# Altium footprint library Footprint Library.PcbLib: 53 footprints (part 1 of 4)
Each footprint in its own frame and in the unit in brackets; x right, y up, seen from the top. Pads: shape width x height; smd on the part's side, far side on the other; paste and mask are expansions set on the pad; w line width, h text height; cw(c..) or ccw(c..) is an arc to the next point about the centre after c.
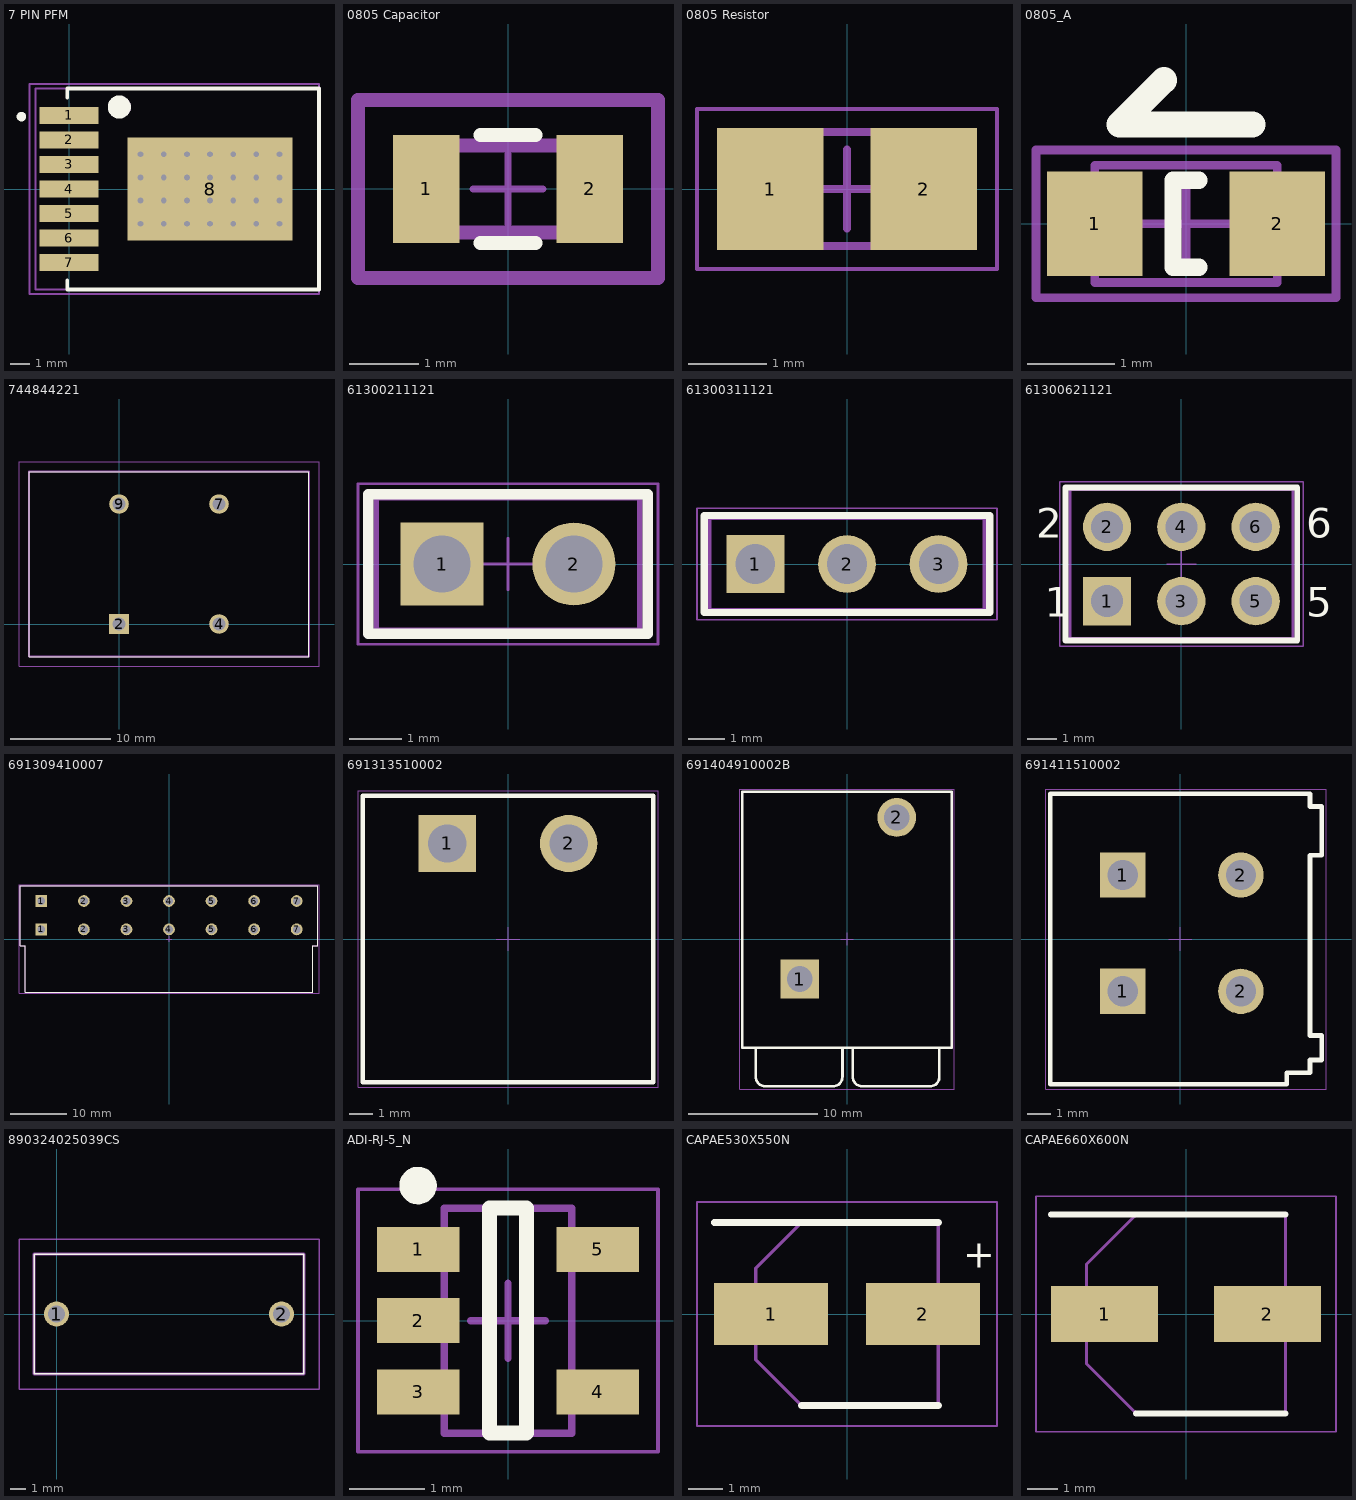
[diagram p0: the footprints below, top view; thin cyan lines are the x and y axes]

## 7 PIN PFM [mm] "SMD, 7-Leads, Body 10.4x10.1mm (max), Pitch 1.27mm, IPC Medium Density"
height 6.2
pads (8):
  rect 3.06x0.89 smd: 1(0,3.81) 2(0,2.54) 3(0,1.27) 4(0,0) 5(0,-1.27) 6(0,-2.54) 7(0,-3.81)
  rect 8.54x5.35 smd: 8(7.305,0)
via 7.305,0.6 diameter 0.6 hole 0.3
via 10.905,-1.8 diameter 0.6 hole 0.3
via 9.705,-1.8 diameter 0.6 hole 0.3
via 8.505,-1.8 diameter 0.6 hole 0.3
via 7.305,-1.8 diameter 0.6 hole 0.3
via 6.105,-1.8 diameter 0.6 hole 0.3
via 4.905,-1.8 diameter 0.6 hole 0.3
via 3.705,-1.8 diameter 0.6 hole 0.3
via 10.905,-0.6 diameter 0.6 hole 0.3
via 9.705,-0.6 diameter 0.6 hole 0.3
via 8.505,-0.6 diameter 0.6 hole 0.3
via 7.305,-0.6 diameter 0.6 hole 0.3
via 6.105,-0.6 diameter 0.6 hole 0.3
via 4.905,-0.6 diameter 0.6 hole 0.3
via 3.705,-0.6 diameter 0.6 hole 0.3
via 10.905,0.6 diameter 0.6 hole 0.3
via 9.705,0.6 diameter 0.6 hole 0.3
via 8.505,0.6 diameter 0.6 hole 0.3
via 6.105,0.6 diameter 0.6 hole 0.3
via 4.905,0.6 diameter 0.6 hole 0.3
via 3.705,0.6 diameter 0.6 hole 0.3
via 10.905,1.8 diameter 0.6 hole 0.3
via 9.705,1.8 diameter 0.6 hole 0.3
via 8.505,1.8 diameter 0.6 hole 0.3
via 7.305,1.8 diameter 0.6 hole 0.3
via 6.105,1.8 diameter 0.6 hole 0.3
via 4.905,1.8 diameter 0.6 hole 0.3
via 3.705,1.8 diameter 0.6 hole 0.3
Top Overlay:
  circle w0.6: c2.602,4.25 r0.3
  circle w0.25: c-2.473,3.75 r0.125
  lines w0.2: -0.098,-4.75 -0.098,-5.205 12.952,-5.205 12.952,5.2 -0.098,5.2 -0.098,4.75
Mechanical 13:
  circle w0.1: c2.653,4.25 r0.5
  lines w0.1: -1.747,-5.205 12.952,-5.205 12.952,5.205 -1.747,5.205 -1.747,-5.205
Mechanical 15:
  lines w0.1: 3.153,0 4.152,0 ; 3.652,-0.5 3.652,0.5 ; -2.047,-5.45 12.952,-5.45 12.952,5.45 -2.047,5.45 -2.047,-5.45
3D body "MagIC-VDRM_PFM_7.stp": height 4.72, standoff -0.05, extent -0.932,-5.06 12.837,5.1

## 0805 Capacitor [mm]
pads (2):
  rect 0.956x1.556 smd paste+0 mask+0: 1(-1.175,0) 2(1.175,0)
Top Overlay:
  lines w0.2: -0.397,-0.778 0.397,-0.778 ; -0.397,0.778 0.397,0.778
Mechanical 5:
  lines w0.2: -2.153,-1.278 2.153,-1.278 2.153,1.278 -2.153,1.278 -2.153,-1.278
  text ".Designator" at 0,0.188 h1
Mechanical 13:
  lines w0.2: -1,-0.625 1,-0.625 1,0.625 -1,0.625 -1,-0.625
Mechanical 15:
  lines w0.2: -2.153,-1.278 2.153,-1.278 2.153,1.278 -2.153,1.278 -2.153,-1.278
Mechanical 16:
  lines w0.1: -0.5,0 0.5,0 ; 0,-0.5 0,0.5
3D body "Cap_TDK_Corporation_CGA4J3X7R1H684M125AB_eec.STEP": height 0.25, standoff 0, extent -2.153,-1.278 2.153,1.278

## 0805 Resistor [mm] "Chip Resistor, 2-Leads, Body 2.00x1.25mm, IPC Low Density"
height 0.7
pads (2):
  rect 1.35x1.55 smd: 1(-0.975,0) 2(0.975,0)
Mechanical 13:
  lines w0.1: -1.1,-0.725 1.1,-0.725 1.1,0.725 -1.1,0.725 -1.1,-0.725
Mechanical 15:
  lines w0.05: -1.905,-1.016 1.905,-1.016 1.905,1.016 -1.905,1.016 -1.905,-1.016
  lines w0.1: -0.5,0 0.5,0 ; 0,-0.5 0,0.5
3D body: height 0.7, standoff 0, extent 0.7,-0.725 1.1,0.725
3D body: height 0.7, standoff 0, extent -1.1,-0.725 -0.7,0.725
3D body: height 0.7, standoff 0, extent -0.7,-0.725 0.7,0.725

## 0805_A [mm] "Chip LED, 2-Leads, Body 2.0x1.3mm, IPC Medium Density"
height 0.8
pads (2):
  rect 1.1x1.2 smd: 1(-1.05,0) 2(1.05,0)
Top Overlay:
  lines w0.2: 0.15,-0.5 -0.15,-0.5 -0.15,0.5 0.15,0.5
  lines w0.3: -0.254,1.651 -0.762,1.143 0.762,1.143
Mechanical 13:
  lines w0.1: -1.05,-0.675 1.05,-0.675 1.05,0.675 -1.05,0.675 -1.05,-0.675
Mechanical 15:
  lines w0.1: -0.5,0 0.5,0 ; 0,-0.5 0,0.5 ; -1.725,-0.85 1.725,-0.85 1.725,0.85 -1.725,0.85 -1.725,-0.85
3D body "WL-SMCW_0805_LED.stp": height 0.68, standoff -0.02, extent -1,-0.625 1,0.625

## 744844221 [mm]
pads (4):
  rect 1.95x1.95 hole 1.3: 2(0,0)
  round 1.95 hole 1.3: 4(10,0) 7(10,12) 9(0,12)
Top Overlay:
  lines w0.1: -9,-3.25 -9,15.25 19,15.25 19,-3.25 -9,-3.25
Mechanical 13:
  lines w0.2: -9,-3.25 -9,15.25 19,15.25 19,-3.25 -9,-3.25
Mechanical 15:
  lines w0.1: -10,-4.25 -10,16.25 20,16.25 20,-4.25 -10,-4.25
3D body "744844221.stp": height 33.1, standoff -5, extent -9,-3.25 19,15.25

## 61300211121 [mm] "Pin Header, pitch 2.54 mm, THT, Vertical, single row, 2p"
height 8.54
pads (2):
  rect 1.6x1.6 hole 1.1: 1(-1.27,0)
  round 1.6 hole 1.1: 2(1.27,0)
Top Overlay:
  lines w0.2: -2.69,-1.345 2.69,-1.345 2.69,1.345 -2.69,1.345 -2.69,-1.345
Mechanical 13:
  lines w0.1: -2.54,-1.27 -2.54,1.27 2.54,1.27 2.54,-1.27 -2.54,-1.27
Mechanical 15:
  lines w0.05: -0.5,0 0.5,0 ; 0,-0.5 0,0.5 ; -2.89,-1.545 -2.89,1.545 2.89,1.545 2.89,-1.545 -2.89,-1.545
3D body "61300211121.stp": height 8.57, standoff -2.97, extent -2.54,-1.27 2.54,1.27

## 61300311121 [mm] "Pin Header, pitch 2.54 mm, THT, Vertical, single row, 3p"
height 8.54
pads (3):
  rect 1.6x1.6 hole 1.1: 1(-2.54,0)
  round 1.6 hole 1.1: 2(0,0) 3(2.54,0)
Top Overlay:
  lines w0.2: -3.96,-1.345 3.96,-1.345 3.96,1.345 -3.96,1.345 -3.96,-1.345
Mechanical 13:
  lines w0.1: -3.81,-1.27 -3.81,1.27 3.81,1.27 3.81,-1.27 -3.81,-1.27
Mechanical 15:
  lines w0.05: -0.5,0 0.5,0 ; 0,-0.5 0,0.5 ; -4.16,-1.545 -4.16,1.545 4.16,1.545 4.16,-1.545 -4.16,-1.545
3D body "61300311121.stp": height 8.57, standoff -2.97, extent -3.81,-1.27 3.81,1.27

## 61300621121 [mm] "Pin Header, pitch 2.54 mm, THT, Vertical, dual row, 6p"
height 8.54
pads (6):
  rect 1.65x1.65 hole 1.1: 1(-2.54,-1.27)
  round 1.65 hole 1.1: 2(-2.54,1.27) 3(0,-1.27) 4(0,1.27) 5(2.54,-1.27) 6(2.54,1.27)
Top Overlay:
  lines w0.2: -3.96,-2.615 3.96,-2.615 3.96,2.615 -3.96,2.615 -3.96,-2.615
  text "6" at 4.27,0.9 h1.02
  text "5" at 4.27,-1.8 h1.02
  text "2" at -4.97,0.9 h1.02
  text "1" at -4.67,-1.8 h1.02
Mechanical 13:
  lines w0.1: -3.81,-2.54 3.81,-2.54 3.81,2.54 -3.81,2.54 -3.81,-2.54
Mechanical 15:
  lines w0.05: -0.5,0 0.5,0 ; 0,-0.5 0,0.5 ; -4.16,-2.815 -4.16,2.815 4.16,2.815 4.16,-2.815 -4.16,-2.815
3D body "61300621121.stp": height 8.59, standoff -2.95, extent -3.81,-2.54 3.81,2.54

## 691309410007 [mm] "7.62 mm - Reversed Gender Horizontal PCB Header - 07p"
height 8.6
pads (14):
  rect 2.1x2.1 hole 1.4: 1(-22.86,1.72) 1(-22.86,6.8)
  round 2.1 hole 1.4: 2(-15.24,1.72) 2(-15.24,6.8) 3(-7.62,1.72) 3(-7.62,6.8) 4(0,1.72) 4(0,6.8) 5(7.62,1.72) 5(7.62,6.8) 6(15.24,1.72) 6(15.24,6.8) 7(22.86,1.72) 7(22.86,6.8)
Top Overlay:
  lines w0.2: -26.66,-1.2 -25.72,-1.2 -25.72,-9.5 25.72,-9.5 25.72,-1.2 26.66,-1.2 26.66,9.5 -26.66,9.5 -26.66,-1.2
Mechanical 13:
  lines w0.1: -26.66,-1.2 -26.66,9.5 26.66,9.5 26.66,-1.2 25.72,-1.2 25.72,-9.5 -25.72,-9.5 -25.72,-1.2 -26.66,-1.2
Mechanical 15:
  lines w0.05: -0.5,0 0.5,0 ; 0,-0.5 0,0.5 ; -26.86,-9.7 26.86,-9.7 26.86,9.7 -26.86,9.7 -26.86,-9.7
3D body "691309410007.stp": height 10.8, standoff -3.45, extent -26.66,-9.5 26.66,9.5

## 691313510002 [mm] "5,08mm - PCB Headers - Horizontal - Closed ends - 02p"
height 8.5
pads (2):
  rect 2.4x2.4 hole 1.6: 1(-2.54,4)
  round 2.4 hole 1.6: 2(2.54,4)
Top Overlay:
  lines w0.2: -6.08,-6 -6.08,6 6.08,6 6.08,-6 -6.08,-6
Mechanical 13:
  lines w0.1: -6.08,-6 6.08,-6 6.08,6 -6.08,6 -6.08,-6
Mechanical 15:
  lines w0.05: -0.5,0 0.5,0 ; 0,-0.5 0,0.5 ; -6.28,-6.2 -6.28,6.2 6.28,6.2 6.28,-6.2 -6.28,-6.2
3D body "691313510002.stp": height 8.55, standoff -3.45, extent -6.08,-6 6.08,6

## 691404910002B [mm] "7.50 mm Screwless Clamp Power Connector, 2p"
height 24.1
pads (2):
  rect 3x3 hole 2: 1(-3.65,-3.1)
  round 3 hole 2: 2(3.85,9.4)
Top Overlay:
  lines w0.2: -7.05,-8.4 -7.05,-10.65 ccw(c-6.3,-10.65) -6.3,-11.4 -1.05,-11.4 ; -1.1,-11.4 ccw(c-1.1,-10.65) -0.35,-10.65 -0.35,-8.4 ; 0.45,-8.4 0.45,-10.65 ccw(c1.2,-10.65) 1.2,-11.4 6.45,-11.4 ; 6.4,-11.4 ccw(c6.4,-10.65) 7.15,-10.65 7.15,-8.4 ; -8.1,-8.4 -8.1,11.4 8.1,11.4 8.1,-8.4 -8.1,-8.4
Mechanical 13:
  lines w0.1: -7.05,-8.4 -7.05,-10.65 ccw(c-6.3,-10.65) -6.3,-11.4 -1.05,-11.4 ; -1.1,-11.4 ccw(c-1.1,-10.65) -0.35,-10.65 -0.35,-8.4 ; 0.45,-8.4 0.45,-10.65 ccw(c1.2,-10.65) 1.2,-11.4 6.45,-11.4 ; 6.4,-11.4 ccw(c6.4,-10.65) 7.15,-10.65 7.15,-8.4 ; -8.1,-8.4 8.1,-8.4 8.1,11.4 -8.1,11.4 -8.1,-8.4
Mechanical 15:
  lines w0.05: -0.5,0 0.5,0 ; 0,-0.5 0,0.5 ; -8.3,-11.6 -8.3,11.6 8.3,11.6 8.3,-11.6 -8.3,-11.6
3D body "691404910002B.stp": height 24.16, standoff -3.54, extent -8.1,-11.395 8.1,11.4

## 691411510002 [mm] "5.08 mm Screwless Horizontal Entry, 2p"
height 13.9
pads (4):
  rect 1.95x1.95 hole 1.3: 1(-2.47,-2.25) 1(-2.47,2.75)
  round 1.95 hole 1.3: 2(2.61,-2.25) 2(2.61,2.75)
Top Overlay:
  lines w0.2: -5.58,-6.25 4.58,-6.25 4.58,-5.75 5.58,-5.75 5.58,-5.2 6.08,-5.2 6.08,-4.15 5.58,-4.15 5.58,3.6 6.08,3.6 6.08,5.7 5.58,5.7 5.58,6.25 -5.58,6.25 -5.58,-6.25
Mechanical 13:
  lines w0.1: -5.58,-6.25 -5.58,6.25 5.58,6.25 5.58,5.7 6.08,5.7 6.08,3.6 5.58,3.6 5.58,-4.15 6.08,-4.15 6.08,-5.2 5.58,-5.2 5.58,-5.75 4.58,-5.75 4.58,-6.25 -5.58,-6.25
Mechanical 15:
  lines w0.05: -0.5,0 0.5,0 ; 0,-0.5 0,0.5 ; -5.78,-6.45 -5.78,6.45 6.28,6.45 6.28,-6.45 -5.78,-6.45
3D body "691411510002.stp": height 13.95, standoff -3.55, extent -5.58,-6.25 6.08,6.25

## 890324025039CS [mm]
pads (2):
  round 1.65 hole 1.1: 1(0,0) 2(15,0)
Top Overlay:
  lines w0.1: -1.5,-4 -1.5,4 16.5,4 16.5,-4 -1.5,-4
Mechanical 13:
  lines w0.2: -1.5,-4 -1.5,4 16.5,4 16.5,-4 -1.5,-4
Mechanical 15:
  lines w0.1: -2.5,-5 -2.5,5 17.5,5 17.5,-5 -2.5,-5
3D body "890324025039CS.stp": height 14.6, standoff -5, extent -1.5,-4 16.5,4

## ADI-RJ-5_N [mm] "SOT-23, 5-Leads, Body 2.9x1.6mm, Pitch 0.95mm, IPC Medium Density"
height 1.45
pads (5):
  rect 1.1x0.6 smd: 1(-1.2,0.95) 2(-1.2,0) 3(-1.2,-0.95) 4(1.2,-0.95) 5(1.2,0.95)
Top Overlay:
  circle w0.25: c-1.2,1.8 r0.125
  lines w0.2: -0.25,-1.5 0.25,-1.5 0.25,1.5 -0.25,1.5 -0.25,-1.5
Mechanical 13:
  lines w0.1: -0.85,-1.5 -0.85,1.5 0.85,1.5 0.85,-1.5 -0.85,-1.5
Mechanical 15:
  lines w0.05: -2,-1.75 -2,1.75 2,1.75 2,-1.75 -2,-1.75
  lines w0.1: -0.5,0 0.5,0 ; 0,-0.5 0,0.5
3D body: height 1.45, standoff 0.05, extent -0.85,-1.5 0.85,1.5

## CAPAE530X550N [mm]
pads (2):
  rect 3.3x1.8 smd: 1(-2.2,0) 2(2.2,0)
Top Overlay:
  lines w0.2: -3.85,2.65 2.65,2.65 ; -1.325,-2.65 2.65,-2.65
  text "+" at 3.375,1.337 h0.8
Mechanical 13:
  lines w0.1: -2.65,-1.325 -2.65,1.325 -1.325,2.65 2.65,2.65 2.65,-2.65 -1.325,-2.65 -2.65,-1.325
Mechanical 15:
  lines w0.05: -4.35,-3.25 4.35,-3.25 4.35,3.25 -4.35,3.25 -4.35,-3.25
3D body "865060440001.stp": height 5.5, standoff 0, extent -3.125,-2.75 3.125,2.75

## CAPAE660X600N [mm]
pads (2):
  rect 3.55x1.85 smd: 1(-2.7,0) 2(2.7,0)
Top Overlay:
  lines w0.2: -4.475,3.3 3.3,3.3 ; -1.65,-3.3 3.3,-3.3
Mechanical 13:
  lines w0.1: -3.3,-1.65 -1.65,-3.3 3.3,-3.3 3.3,3.3 -1.65,3.3 -3.3,1.65 -3.3,-1.65
Mechanical 15:
  lines w0.05: -4.975,-3.9 -4.975,3.9 4.975,3.9 4.975,-3.9 -4.975,-3.9
3D body "50SVPF10M.stp": height 6, standoff 0, extent -3.75,-3.4 3.75,3.4